# EAGLE library part TA7267* (library mita-akiba)
Full Bridge IC Avg=1.0A Max=3.0A 200 yens @Sengoku
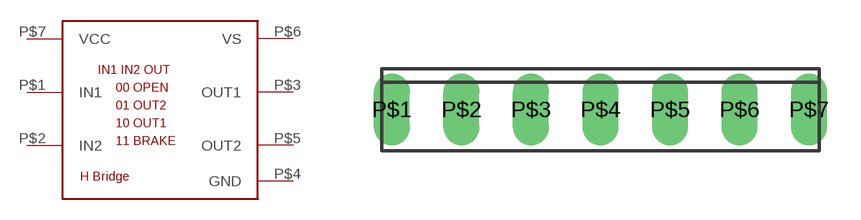
[diagram p64: symbol with the pads of HSIP7-P-2.54A; footprint HSIP7-P-2.54A]

Designator prefix -

## TA7267BP  [HSIP7-P-2.54A]
P$1  IN1
P$2  IN2
P$3  OUT1
P$4  GND
P$5  OUT2
P$6  VS
P$7  VCC

## Footprint HSIP7-P-2.54A (pad centres in mm)
drill 0.8 long: P$1 -7.62,0; P$2 -5.08,0; P$3 -2.54,0; P$4 0,0; P$5 2.54,0; P$6 5.08,0; P$7 7.62,0